# Altium footprint library PCB_CPU_BC.PcbLib: 27 footprints (part 1 of 2)
Each footprint in its own frame and in the unit in brackets; x right, y up, seen from the top. Pads: shape width x height; smd on the part's side, far side on the other; paste and mask are expansions set on the pad; w line width, h text height; cw(c..) or ccw(c..) is an arc to the next point about the centre after c.
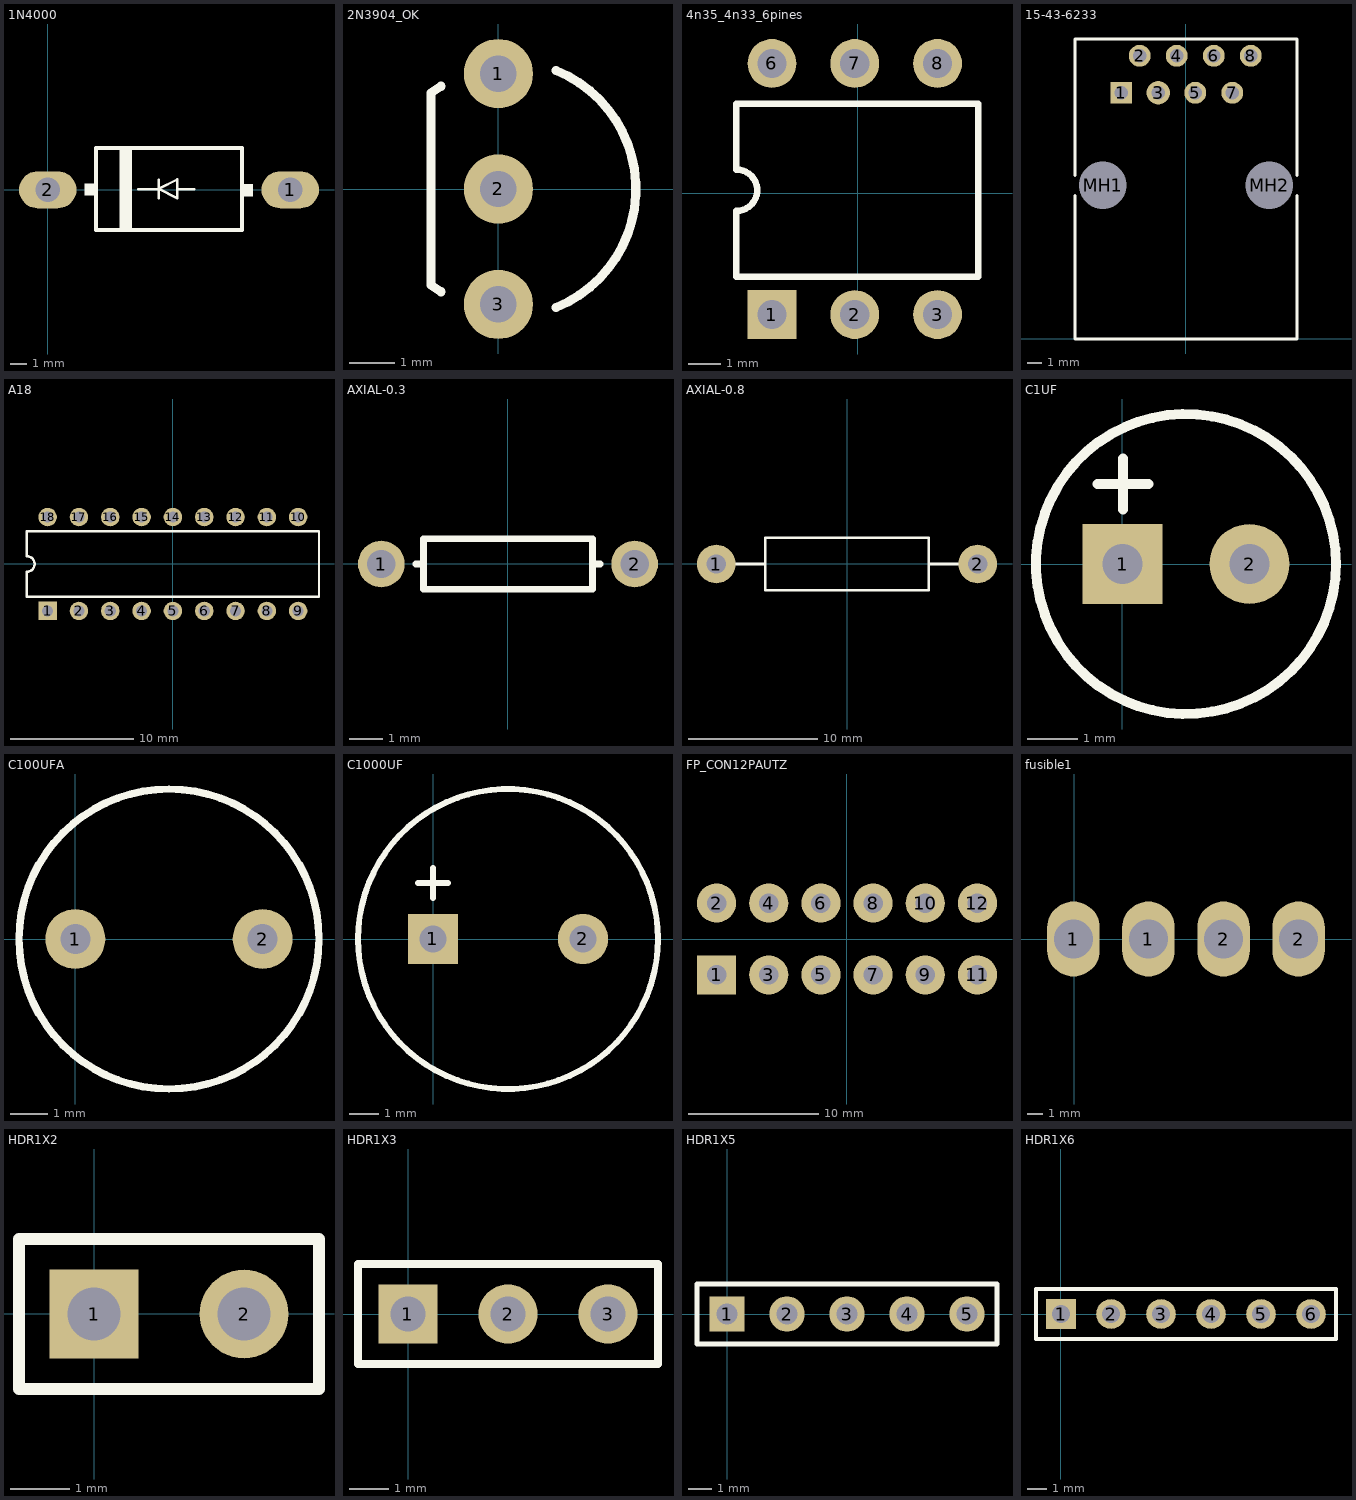
[diagram p0: the footprints below, top view; thin cyan lines are the x and y axes]

## 1N4000 [mil] "Diodo Rectificador de proposito general"
height 520.08
pads (2):
  oval 140x90 hole 60: 1(591.54,0) 2(0,0)
Top Overlay:
  region: 500,-16.22 500,13.78 478.11,13.78 478.11,-16.22
  region: 115.25,-14.25 115.25,15.75 90.09,15.75 90.09,-14.25
  rectangle: 175.62,-98.42 205.62,102.37
  lines w6: 220.67,1.61 270.67,1.61 270.67,24.61 ; 270.67,-20.67 270.67,2.33 ; 316.49,0.99 357.28,0.99 ; 270.95,2.33 315.95,-20.67 315.95,25.33 270.95,2.33
  lines w10: 118.11,-98.42 473.43,-98.42 473.43,102.36 118.11,102.36 118.11,-98.42
3D body: height 183.07, standoff -157.48, extent -26.57,-102.36 615.16,106.3

## 2N3904_OK [mil]
height 520.08
pads (3):
  round 60 hole 31.5: 1(0,100) 2(0,0) 3(0,-100)
Top Overlay:
  lines w7.87: -49.71,-89.08 -58.33,-83.33 -58.33,83.33 -49.71,89.08 ; 49.85,-102.76 ccw(c8.33,0) 49.85,102.76

## 4n35_4n33_6pines [mm] "optoacoplador"
height 13.21
pads (6):
  rect 1.5x1.5 hole 0.9: 1(-2.628,-3.717)
  round 1.5 hole 0.9: 2(-0.088,-3.717) 3(2.452,-3.717) 6(-2.628,3.988) 7(-0.088,3.988) 8(2.452,3.988)
Top Overlay:
  lines w0.2: -3.718,-2.552 -3.718,-0.537 ccw(c-3.718,0.098) -3.718,0.733 -3.718,2.748 3.7,2.748 3.7,-2.552 -3.718,-2.552

## 15-43-6233 [mm] "Connector; PCB Jack, Thru-Hole; 1-Port; Unshielded without Lightpipes; Right Angle"
height 18.92
pads (10):
  rect 1.5x1.5 hole 0.9: 1(-4.445,16.89)
  round 1.5 hole 0.9: 2(-3.175,19.43) 4(-0.635,19.43) 5(0.635,16.89) 6(1.905,19.43) 7(3.175,16.89) 8(4.445,19.43)
  round 1.6 hole 0.9: 3(-1.905,16.89)
  round 2.95 hole 3.25 unplated: MH1(-5.715,10.54) MH2(5.715,10.54)
Top Overlay:
  lines w0.2: -7.62,9.853 -7.62,0 7.62,0 7.62,9.853 ; -7.62,11.227 -7.62,20.58 7.62,20.58 7.62,11.227

## A18 [mm] "DIP; 18 Leads; Row Spacing 7.62 mm; Pitch 2.54 mm"
height 5.33
pads (18):
  rect 1.5x1.5 hole 0.9: 1(-10.16,-3.81)
  round 1.5 hole 0.9: 2(-7.62,-3.81) 3(-5.08,-3.81) 4(-2.54,-3.81) 5(0,-3.81) 6(2.54,-3.81) 7(5.08,-3.81) 8(7.62,-3.81) 9(10.16,-3.81) 10(10.16,3.81) 11(7.62,3.81) 12(5.08,3.81) 13(2.54,3.81) 14(0,3.81) 15(-2.54,3.81) 16(-5.08,3.81) 17(-7.62,3.81) 18(-10.16,3.81)
Top Overlay:
  lines w0.2: -11.85,-2.65 11.85,-2.65 11.85,2.65 -11.85,2.65 -11.85,0.635 cw(c-11.85,0) -11.85,-0.635 -11.85,-2.65

## AXIAL-0.3 [mm] "Axial Device, Thru-Hole; 2 Leads; 0.3 in Pin Spacing"
height 1.524
pads (2):
  round 1.4 hole 0.85: 1(-3.81,0) 2(3.81,0)
Top Overlay:
  lines w0.2: -2.769,0 -2.54,0 ; 2.769,0 2.54,0 ; 2.54,0 2.54,0.762 -2.54,0.762 -2.54,-0.762 2.54,-0.762 2.54,0

## AXIAL-0.8 [mm] "Axial Device, Thru-Hole; 2 Leads; 0.8 in Pin Spacing"
height 4.064
pads (2):
  round 3 hole 1.5: 1(-10.16,0) 2(10.16,0)
Top Overlay:
  lines w0.2: -8.89,0 -6.35,0 ; 6.35,0 8.89,0 ; -6.35,-2.032 -6.35,2.032 6.35,2.032 6.35,-2.032 -6.35,-2.032

## C1UF [mm]
height 13.21
pads (2):
  rect 1.6x1.6 hole 0.8: 1(0,0)
  round 1.6 hole 0.8: 2(2.54,0)
Top Overlay:
  circle w0.2: c1.27,0 r3
  lines w0.2: -0.498,1.6 0.518,1.6 ; 0.01,1.092 0.01,2.108

## C100UFA [mm]
pads (2):
  round 1.6 hole 0.8: 1(0,0) 2(5,0)
Top Overlay:
  circle w0.2: c2.5,0 r4

## C1000UF [mm]
height 13.21
pads (2):
  rect 1.7x1.7 hole 0.9: 1(0,0)
  round 1.7 hole 0.9: 2(5.08,0)
Top Overlay:
  circle w0.2: c2.54,0 r5.08
  lines w0.2: -0.508,1.9 0.508,1.9 ; 0,1.392 0,2.408

## FP_CON12PAUTZ [mm]
height 13.21
pads (12):
  rect 3x3 hole 1.5: 1(-10,-2.75)
  round 3 hole 1.5: 2(-10,2.75) 3(-6,-2.75) 4(-6,2.75) 5(-2,-2.75) 6(-2,2.75) 7(2,-2.75) 8(2,2.75) 9(6,-2.75) 10(6,2.75) 11(10,-2.75) 12(10,2.75)

## fusible1 [mm] "foot print para los socalos de los fusibles"
height 13.21
pads (4):
  oval 3.5x5 hole 2.6: 1(-0.05,0) 1(4.95,0) 2(9.95,0) 2(14.95,0)

## HDR1X2 [mm] "Connector; Header; 2 Position"
height 13.21
pads (2):
  rect 1.5x1.5 hole 0.9: 1(0,0)
  round 1.5 hole 0.9: 2(2.54,0)
Top Overlay:
  lines w0.2: -1.27,-1.27 -1.27,1.27 3.81,1.27 3.81,-1.27 -1.27,-1.27

## HDR1X3 [mm] "Connector; Header; 3 Position"
height 13.21
pads (3):
  rect 1.5x1.5 hole 0.9: 1(0,0)
  round 1.5 hole 0.9: 2(2.54,0) 3(5.08,0)
Top Overlay:
  lines w0.2: -1.27,-1.27 -1.27,1.27 6.35,1.27 6.35,-1.27 -1.27,-1.27

## HDR1X5 [mm] "Connector; Header; 5 Position"
height 13.21
pads (5):
  rect 1.5x1.5 hole 0.9: 1(0,0)
  round 1.5 hole 0.9: 2(2.54,0) 3(5.08,0) 4(7.62,0) 5(10.16,0)
Top Overlay:
  lines w0.2: -1.27,-1.27 11.43,-1.27 11.43,1.27 -1.27,1.27 -1.27,-1.27

## HDR1X6 [mm] "Connector; Header; 6 Position"
height 13.21
pads (6):
  rect 1.5x1.5 hole 0.9: 1(0,0)
  round 1.5 hole 0.9: 2(2.54,0) 3(5.08,0) 4(7.62,0) 5(10.16,0) 6(12.7,0)
Top Overlay:
  lines w0.2: -1.27,-1.27 13.97,-1.27 13.97,1.27 -1.27,1.27 -1.27,-1.27